# EAGLE library part 9FEETPIN (library 629)
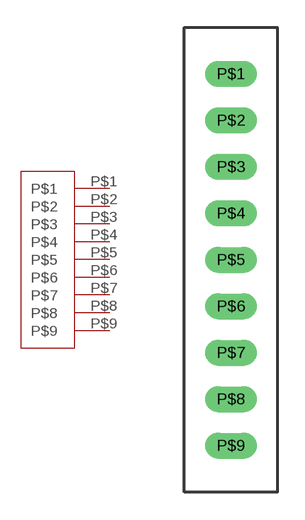
[diagram p5: symbol with the pads of 9FEETPIN; footprint 9FEETPIN]

Designator prefix -

## 9FEETPIN  [9FEETPIN]
P$1  P$1
P$2  P$2
P$3  P$3
P$4  P$4
P$5  P$5
P$6  P$6
P$7  P$7
P$8  P$8
P$9  P$9

## Footprint 9FEETPIN (pad centres in mm)
drill 0.9 long: P$1 0,2.54; P$2 0,0; P$3 0,-2.54; P$4 0,-5.08; P$5 0,-7.62; P$6 0,-10.16; P$7 0,-12.7; P$8 0,-15.24; P$9 0,-17.78